# Altium schematic symbol library elv10-80-2p.SchLib: 1 symbol
Pins are listed as number, name and electrical type; pins without a type are passive.

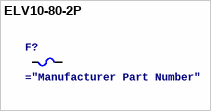
[diagram p0: symbol ELV10-80-2P]

## ELV10-80-2P
designator F?
80A 200 VDC Fuse Cartridge Through Hole
pins: 1, 2